# EAGLE library part ATTINY85-20SU (library Common-Parts-Library-Eagle)
ATtiny Series 20 MHz 8 KB Flash 512 B SRAM 8-Bit Microcontroller - SOIC-8
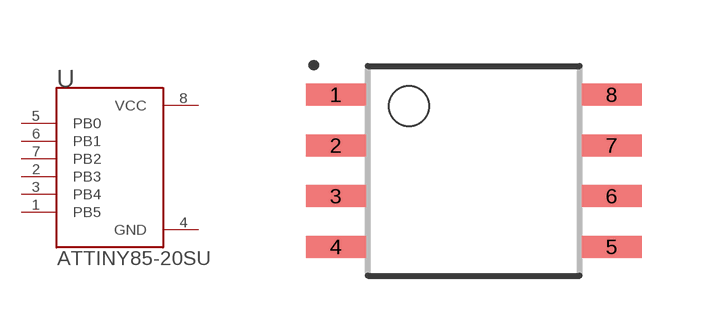
[diagram p26: symbol with the pads of SOIC127P798X216-8N; footprint SOIC127P798X216-8N]

Designator prefix U

## ATTINY85-20SU (MANUFACTURER: Atmel)  [SOIC127P798X216-8N]
1  PB5
2  PB3
3  PB4
4  GND  pwr
5  PB0
6  PB1
7  PB2
8  VCC  pwr

## Footprint SOIC127P798X216-8N (pad centres in mm)
smd 1.5 x 0.55: 1 -3.45,1.905; 2 -3.45,0.635; 3 -3.45,-0.635; 4 -3.45,-1.905; 5 3.45,-1.905; 6 3.45,-0.635; 7 3.45,0.635; 8 3.45,1.905